# EAGLE library part RFSWITCH (library muccc)
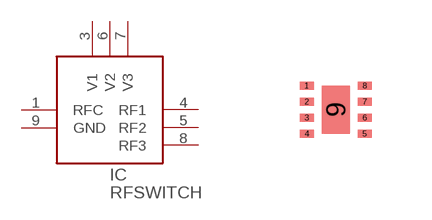
[diagram p4: symbol with the pads of MLP_8; footprint MLP_8]

Designator prefix IC

## RFSWITCH  [MLP_8]
1  RFC
3  V1
4  RF1
5  RF2
6  V2
7  V3
8  RF3
9  GND

## Footprint MLP_8 (pad centres in mm)
smd 0.35 x 0.2: 1 -0.725,0.6; 2 -0.725,0.2; 3 -0.725,-0.2; 4 -0.725,-0.6; 5 0.725,-0.6; 6 0.725,-0.2; 7 0.725,0.2; 8 0.725,0.6
smd 0.7 x 1.2: 9 0,0